# Altium integrated library Linear Technology Comparators.IntLib: 630 symbols (part 9 of 24)
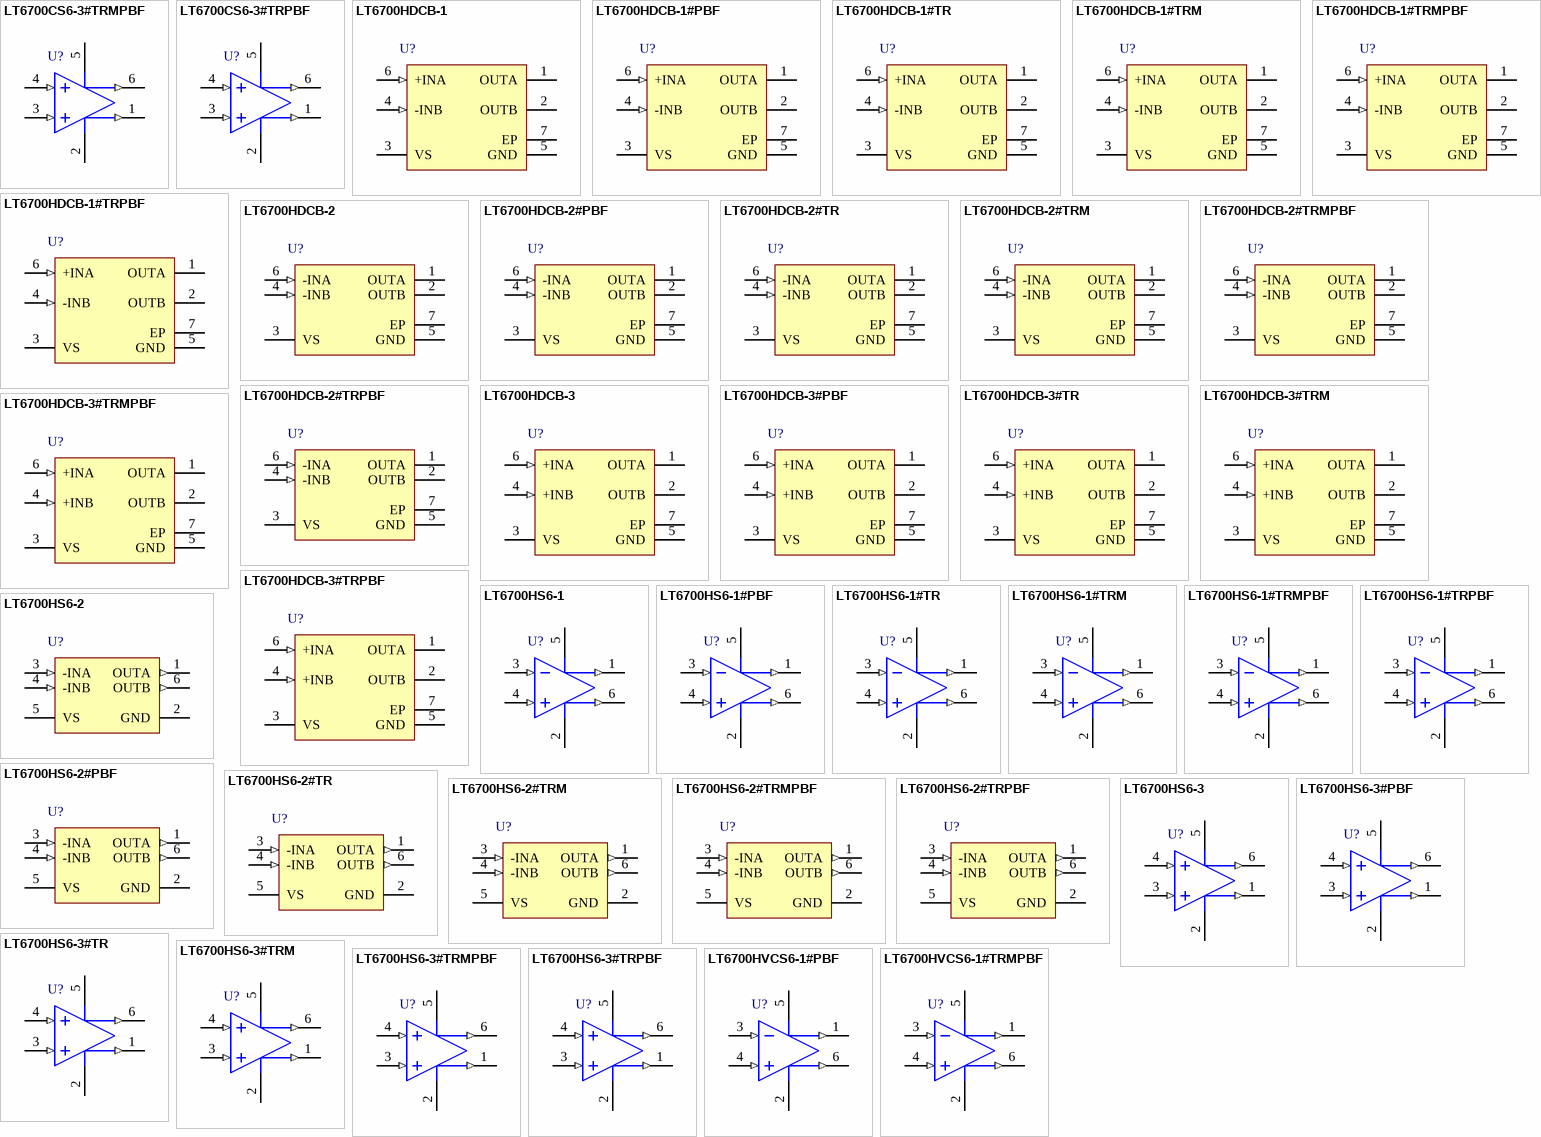
[diagram p32: symbols LT6700CS6-3#TRMPBF to LT6700HVCS6-1#TRMPBF]

## LT6700HDCB-1#TR
designator U?
Micropower, Low Voltage, Comparator with 400 mV Reference, 2 Channels, 1.4 to 18 V, -40 to +125 degC, 6-pin Plastic DFN (DCB6), Tape and Reel; Generic Part Number: LT6700-1; Manufacturer: Linear Technology; PartNumber: LT6700HDCB-1#TR; Channels (#): 2; Prop Delay (us): 18; Supply Current (uA) Guaranteed: 10; Supply Current (uA) Typical: 5.7; Vos (mV) Typical: 6; Vs Min (V): 1.4; DatasheetVersion: Rev G; PackageReference: DCB6; PackageDescription: 6-Pin Plastic DFN, Body 2 × 3 mm, Pitch 1.35 mm; Features: Comparator, Window Comparator, Reference, Over-the-Top Inputs; RoHS: N; Supply Voltage Range: 1.4 to 18 V; Vs Max (V): 18; Mounting Technology: Surface Mount; Code_JEDEC: M0-229; ComponentLink1Description: Manufacturer URL; ComponentLink1URL: http://www.linear.com/; ComponentLink2Description: Datasheet; ComponentLink2URL: http://cds.linear.com/docs/en/datasheet/6700123fg.pdf; ComponentLink3Description: Package Specification; ComponentLink3URL: http://cds.linear.com/docs/en/packaging/(DCB6)%20DFN%2005-08-1715%20Rev%20A.pdf
footprint LT-DCB6_V (SON, 6-Leads, Body 2x3mm, Pitch 0.5mm, Thermal Pad 1.35x1.65mm)
pins: 1 OUTA (oc) "Open-Collector Output of Comparator Section A This pin provides drive for up to 40mA of load current.off state voltage may be as high as 18V (36V for LT6700HV) above GND ,regardless of VS used.", 2 OUTB (oc) "Open-Collector Output of Comparator Section B  This pin provides drive for up to 40mA of load current .off state voltage may be as high as 18V(36V for LT6700HV)above  GND,regardless of VS used.", 3 VS (power) "Comparator Core Supply Voltage. The parts are characterized for operation with 1.4V =< VS =< 18V with respect to GND.", 4 -INB (in) "External Input for Comparator Section B. The voltage on this pin can range from -0.3V to 18V (36V for LT6700HV) with respect to GND regardless of VS used. The input is noninverting for the LT6700-3/LT6700HV-3, and inverting (See Datasheet)", 5 GND (power) "Ground. This pin is also the low side return of the internal 400mV reference", 6 +INA (in) "External Input for Comparator Section A. The voltage on this pin can range from -0.3V to 18V (36V for LT6700HV) with respect to GND regardless of VS used. The input is (See Datasheet)", 7 EP (power)

## LT6700HDCB-1#TRM
designator U?
Micropower, Low Voltage, Comparator with 400 mV Reference, 2 Channels, 1.4 to 18 V, -40 to +125 degC, 6-pin Plastic DFN (DCB6), Mini Tape and Reel; Generic Part Number: LT6700-1; Manufacturer: Linear Technology; PartNumber: LT6700HDCB-1#TRM; Channels (#): 2; Prop Delay (us): 18; Supply Current (uA) Guaranteed: 10; Supply Current (uA) Typical: 5.7; Vos (mV) Typical: 6; Vs Min (V): 1.4; DatasheetVersion: Rev G; PackageReference: DCB6; PackageDescription: 6-Pin Plastic DFN, Body 2 × 3 mm, Pitch 1.35 mm; Features: Comparator, Window Comparator, Reference, Over-the-Top Inputs; RoHS: N; Supply Voltage Range: 1.4 to 18 V; Vs Max (V): 18; Mounting Technology: Surface Mount; Code_JEDEC: M0-229; ComponentLink1Description: Manufacturer URL; ComponentLink1URL: http://www.linear.com/; ComponentLink2Description: Datasheet; ComponentLink2URL: http://cds.linear.com/docs/en/datasheet/6700123fg.pdf; ComponentLink3Description: Package Specification; ComponentLink3URL: http://cds.linear.com/docs/en/packaging/(DCB6)%20DFN%2005-08-1715%20Rev%20A.pdf
footprint LT-DCB6_V (SON, 6-Leads, Body 2x3mm, Pitch 0.5mm, Thermal Pad 1.35x1.65mm)
pins: 1 OUTA (oc) "Open-Collector Output of Comparator Section A This pin provides drive for up to 40mA of load current.off state voltage may be as high as 18V (36V for LT6700HV) above GND ,regardless of VS used.", 2 OUTB (oc) "Open-Collector Output of Comparator Section B  This pin provides drive for up to 40mA of load current .off state voltage may be as high as 18V(36V for LT6700HV)above  GND,regardless of VS used.", 3 VS (power) "Comparator Core Supply Voltage. The parts are characterized for operation with 1.4V =< VS =< 18V with respect to GND.", 4 -INB (in) "External Input for Comparator Section B. The voltage on this pin can range from -0.3V to 18V (36V for LT6700HV) with respect to GND regardless of VS used. The input is noninverting for the LT6700-3/LT6700HV-3, and inverting (See Datasheet)", 5 GND (power) "Ground. This pin is also the low side return of the internal 400mV reference", 6 +INA (in) "External Input for Comparator Section A. The voltage on this pin can range from -0.3V to 18V (36V for LT6700HV) with respect to GND regardless of VS used. The input is (See Datasheet)", 7 EP (power)

## LT6700HDCB-1#TRMPBF
designator U?
Micropower, Low Voltage, Comparator with 400 mV Reference, 2 Channels, 1.4 to 18 V, -40 to +125 degC, 6-pin Plastic DFN (DCB6), Mini Tape and Reel; Generic Part Number: LT6700-1; Manufacturer: Linear Technology; PartNumber: LT6700HDCB-1#TRMPBF; Channels (#): 2; Prop Delay (us): 18; Supply Current (uA) Guaranteed: 10; Supply Current (uA) Typical: 5.7; Vos (mV) Typical: 6; Vs Min (V): 1.4; DatasheetVersion: Rev G; PackageReference: DCB6; PackageDescription: 6-Pin Plastic DFN, Body 2 × 3 mm, Pitch 1.35 mm; Supplier 1: Digi-Key; Supplier Part Number 1: LT6700HDCB-1#TRMPBF-ND; Features: Comparator, Window Comparator, Reference, Over-the-Top Inputs; RoHS: Y; Supply Voltage Range: 1.4 to 18 V; Vs Max (V): 18; Mounting Technology: Surface Mount; Code_JEDEC: M0-229; ComponentLink1Description: Manufacturer URL; ComponentLink1URL: http://www.linear.com/; ComponentLink2Description: Datasheet; ComponentLink2URL: http://cds.linear.com/docs/en/datasheet/6700123fg.pdf; ComponentLink3Description: Package Specification; ComponentLink3URL: http://cds.linear.com/docs/en/packaging/(DCB6)%20DFN%2005-08-1715%20Rev%20A.pdf
footprint LT-DCB6_V (SON, 6-Leads, Body 2x3mm, Pitch 0.5mm, Thermal Pad 1.35x1.65mm)
pins: 1 OUTA (oc) "Open-Collector Output of Comparator Section A This pin provides drive for up to 40mA of load current.off state voltage may be as high as 18V (36V for LT6700HV) above GND ,regardless of VS used.", 2 OUTB (oc) "Open-Collector Output of Comparator Section B  This pin provides drive for up to 40mA of load current .off state voltage may be as high as 18V(36V for LT6700HV)above  GND,regardless of VS used.", 3 VS (power) "Comparator Core Supply Voltage. The parts are characterized for operation with 1.4V =< VS =< 18V with respect to GND.", 4 -INB (in) "External Input for Comparator Section B. The voltage on this pin can range from -0.3V to 18V (36V for LT6700HV) with respect to GND regardless of VS used. The input is noninverting for the LT6700-3/LT6700HV-3, and inverting (See Datasheet)", 5 GND (power) "Ground. This pin is also the low side return of the internal 400mV reference", 6 +INA (in) "External Input for Comparator Section A. The voltage on this pin can range from -0.3V to 18V (36V for LT6700HV) with respect to GND regardless of VS used. The input is (See Datasheet)", 7 EP (power)

## LT6700HDCB-1#TRPBF
designator U?
Micropower, Low Voltage, Comparator with 400 mV Reference, 2 Channels, 1.4 to 18 V, -40 to +125 degC, 6-pin Plastic DFN (DCB6), Tape and Reel; Generic Part Number: LT6700-1; Manufacturer: Linear Technology; PartNumber: LT6700HDCB-1#TRPBF; Channels (#): 2; Prop Delay (us): 18; Supply Current (uA) Guaranteed: 10; Supply Current (uA) Typical: 5.7; Vos (mV) Typical: 6; Vs Min (V): 1.4; DatasheetVersion: Rev G; PackageReference: DCB6; PackageDescription: 6-Pin Plastic DFN, Body 2 × 3 mm, Pitch 1.35 mm; Supplier 1: Digi-Key; Supplier Part Number 1: LT6700HDCB-1#TRPBF-ND; Features: Comparator, Window Comparator, Reference, Over-the-Top Inputs; RoHS: Y; Supply Voltage Range: 1.4 to 18 V; Vs Max (V): 18; Mounting Technology: Surface Mount; Code_JEDEC: M0-229; ComponentLink1Description: Manufacturer URL; ComponentLink1URL: http://www.linear.com/; ComponentLink2Description: Datasheet; ComponentLink2URL: http://cds.linear.com/docs/en/datasheet/6700123fg.pdf; ComponentLink3Description: Package Specification; ComponentLink3URL: http://cds.linear.com/docs/en/packaging/(DCB6)%20DFN%2005-08-1715%20Rev%20A.pdf
footprint LT-DCB6_V (SON, 6-Leads, Body 2x3mm, Pitch 0.5mm, Thermal Pad 1.35x1.65mm)
pins: 1 OUTA (oc) "Open-Collector Output of Comparator Section A This pin provides drive for up to 40mA of load current.off state voltage may be as high as 18V (36V for LT6700HV) above GND ,regardless of VS used.", 2 OUTB (oc) "Open-Collector Output of Comparator Section B  This pin provides drive for up to 40mA of load current .off state voltage may be as high as 18V(36V for LT6700HV)above  GND,regardless of VS used.", 3 VS (power) "Comparator Core Supply Voltage. The parts are characterized for operation with 1.4V =< VS =< 18V with respect to GND.", 4 -INB (in) "External Input for Comparator Section B. The voltage on this pin can range from -0.3V to 18V (36V for LT6700HV) with respect to GND regardless of VS used. The input is noninverting for the LT6700-3/LT6700HV-3, and inverting (See Datasheet)", 5 GND (power) "Ground. This pin is also the low side return of the internal 400mV reference", 6 +INA (in) "External Input for Comparator Section A. The voltage on this pin can range from -0.3V to 18V (36V for LT6700HV) with respect to GND regardless of VS used. The input is (See Datasheet)", 7 EP (power)

## LT6700HDCB-2
designator U?
Micropower, Low Voltage, Comparator with 400 mV Reference, 2 Channels, 1.4 to 18 V, -40 to +125 degC, 6-pin Plastic DFN (DCB6); Generic Part Number: LT6700-2; Manufacturer: Linear Technology; PartNumber: LT6700HDCB-2; Channels (#): 2; Prop Delay (us): 18; Supply Current (uA) Guaranteed: 10; Supply Current (uA) Typical: 5.7; Vos (mV) Typical: 6; Vs Min (V): 1.4; DatasheetVersion: Rev G; PackageReference: DCB6; PackageDescription: 6-Pin Plastic DFN, Body 2 × 3 mm, Pitch 1.35 mm; Features: Comparator, Reference, Over-the-Top Inputs; RoHS: N; Supply Voltage Range: 1.4 to 18 V; Vs Max (V): 18; Mounting Technology: Surface Mount; Code_JEDEC: M0-229; ComponentLink1Description: Manufacturer URL; ComponentLink1URL: http://www.linear.com/; ComponentLink2Description: Datasheet; ComponentLink2URL: http://cds.linear.com/docs/en/datasheet/6700123fg.pdf; ComponentLink3Description: Package Specification; ComponentLink3URL: http://cds.linear.com/docs/en/packaging/(DCB6)%20DFN%2005-08-1715%20Rev%20A.pdf
footprint LT-DCB6_V (SON, 6-Leads, Body 2x3mm, Pitch 0.5mm, Thermal Pad 1.35x1.65mm)
pins: 1 OUTA (oc) "Open-Collector Output of Comparator Section A.This pin provides drive for up to 40mA of load current. Offstate voltage may be as high as 36V for LT6700HV above GND, regardless of VS used.", 2 OUTB (oc) "Open-Collector Output of Comparator Section B.This pin provides drive for up to 40mA of load current. Offstate voltage may be as high as 36V for LT6700HV above GND, regardless of VS used.", 3 VS (power) "Comparator Core Supply Voltage. The parts are characterized for operation with 1.4V =< VS =< 18V with respect to GND.", 4 -INB (in) "External Input for Comparator Section B. The voltage on this pin can range from -0.3V to 36V for LT6700HV withrespecttoGNDregardlessofVSused.TheinputisnoninvertingfortheLT6700-1/LT6700HV-1andLT6700-3/LT6700HV-3, and (See Datasheet)", 5 GND (power) "Ground. This pin is also the low side return of theinternal 400mV reference.", 6 -INA (in) "External Input for Comparator Section A. The voltage on this pin can range from -0.3V to 36V for LT6700HV withrespecttoGNDregardlessofVSused.TheinputisnoninvertingfortheLT6700-1/LT6700HV-1andLT6700-3/LT6700HV-3, and (See Datasheet)", 7 EP (power) "Soldered exposed pad (pin 7)  internally connected to gnd"

## LT6700HDCB-2#PBF
designator U?
Micropower, Low Voltage, Comparator with 400 mV Reference, 2 Channels, 1.4 to 18 V, -40 to +125 degC, 6-pin Plastic DFN (DCB6); Generic Part Number: LT6700-2; Manufacturer: Linear Technology; PartNumber: LT6700HDCB-2#PBF; Channels (#): 2; Prop Delay (us): 18; Supply Current (uA) Guaranteed: 10; Supply Current (uA) Typical: 5.7; Vos (mV) Typical: 6; Vs Min (V): 1.4; DatasheetVersion: Rev G; PackageReference: DCB6; PackageDescription: 6-Pin Plastic DFN, Body 2 × 3 mm, Pitch 1.35 mm; Features: Comparator, Reference, Over-the-Top Inputs; RoHS: Y; Supply Voltage Range: 1.4 to 18 V; Vs Max (V): 18; Mounting Technology: Surface Mount; Code_JEDEC: M0-229; ComponentLink1Description: Manufacturer URL; ComponentLink1URL: http://www.linear.com/; ComponentLink2Description: Datasheet; ComponentLink2URL: http://cds.linear.com/docs/en/datasheet/6700123fg.pdf; ComponentLink3Description: Package Specification; ComponentLink3URL: http://cds.linear.com/docs/en/packaging/(DCB6)%20DFN%2005-08-1715%20Rev%20A.pdf
footprint LT-DCB6_V (SON, 6-Leads, Body 2x3mm, Pitch 0.5mm, Thermal Pad 1.35x1.65mm)
pins: 1 OUTA (oc) "Open-Collector Output of Comparator Section A.This pin provides drive for up to 40mA of load current. Offstate voltage may be as high as 36V for LT6700HV above GND, regardless of VS used.", 2 OUTB (oc) "Open-Collector Output of Comparator Section B.This pin provides drive for up to 40mA of load current. Offstate voltage may be as high as 36V for LT6700HV above GND, regardless of VS used.", 3 VS (power) "Comparator Core Supply Voltage. The parts are characterized for operation with 1.4V =< VS =< 18V with respect to GND.", 4 -INB (in) "External Input for Comparator Section B. The voltage on this pin can range from -0.3V to 36V for LT6700HV withrespecttoGNDregardlessofVSused.TheinputisnoninvertingfortheLT6700-1/LT6700HV-1andLT6700-3/LT6700HV-3, and (See Datasheet)", 5 GND (power) "Ground. This pin is also the low side return of theinternal 400mV reference.", 6 -INA (in) "External Input for Comparator Section A. The voltage on this pin can range from -0.3V to 36V for LT6700HV withrespecttoGNDregardlessofVSused.TheinputisnoninvertingfortheLT6700-1/LT6700HV-1andLT6700-3/LT6700HV-3, and (See Datasheet)", 7 EP (power) "Soldered exposed pad (pin 7)  internally connected to gnd"

## LT6700HDCB-2#TR
designator U?
Micropower, Low Voltage, Comparator with 400 mV Reference, 2 Channels, 1.4 to 18 V, -40 to +125 degC, 6-pin Plastic DFN (DCB6), Tape and Reel; Generic Part Number: LT6700-2; Manufacturer: Linear Technology; PartNumber: LT6700HDCB-2#TR; Channels (#): 2; Prop Delay (us): 18; Supply Current (uA) Guaranteed: 10; Supply Current (uA) Typical: 5.7; Vos (mV) Typical: 6; Vs Min (V): 1.4; DatasheetVersion: Rev G; PackageReference: DCB6; PackageDescription: 6-Pin Plastic DFN, Body 2 × 3 mm, Pitch 1.35 mm; Features: Comparator, Reference, Over-the-Top Inputs; RoHS: N; Supply Voltage Range: 1.4 to 18 V; Vs Max (V): 18; Mounting Technology: Surface Mount; Code_JEDEC: M0-229; ComponentLink1Description: Manufacturer URL; ComponentLink1URL: http://www.linear.com/; ComponentLink2Description: Datasheet; ComponentLink2URL: http://cds.linear.com/docs/en/datasheet/6700123fg.pdf; ComponentLink3Description: Package Specification; ComponentLink3URL: http://cds.linear.com/docs/en/packaging/(DCB6)%20DFN%2005-08-1715%20Rev%20A.pdf
footprint LT-DCB6_V (SON, 6-Leads, Body 2x3mm, Pitch 0.5mm, Thermal Pad 1.35x1.65mm)
pins: 1 OUTA (oc) "Open-Collector Output of Comparator Section A.This pin provides drive for up to 40mA of load current. Offstate voltage may be as high as 36V for LT6700HV above GND, regardless of VS used.", 2 OUTB (oc) "Open-Collector Output of Comparator Section B.This pin provides drive for up to 40mA of load current. Offstate voltage may be as high as 36V for LT6700HV above GND, regardless of VS used.", 3 VS (power) "Comparator Core Supply Voltage. The parts are characterized for operation with 1.4V =< VS =< 18V with respect to GND.", 4 -INB (in) "External Input for Comparator Section B. The voltage on this pin can range from -0.3V to 36V for LT6700HV withrespecttoGNDregardlessofVSused.TheinputisnoninvertingfortheLT6700-1/LT6700HV-1andLT6700-3/LT6700HV-3, and (See Datasheet)", 5 GND (power) "Ground. This pin is also the low side return of theinternal 400mV reference.", 6 -INA (in) "External Input for Comparator Section A. The voltage on this pin can range from -0.3V to 36V for LT6700HV withrespecttoGNDregardlessofVSused.TheinputisnoninvertingfortheLT6700-1/LT6700HV-1andLT6700-3/LT6700HV-3, and (See Datasheet)", 7 EP (power) "Soldered exposed pad (pin 7)  internally connected to gnd"

## LT6700HDCB-2#TRM
designator U?
Micropower, Low Voltage, Comparator with 400 mV Reference, 2 Channels, 1.4 to 18 V, -40 to +125 degC, 6-pin Plastic DFN (DCB6), Mini Tape and Reel; Generic Part Number: LT6700-2; Manufacturer: Linear Technology; PartNumber: LT6700HDCB-2#TRM; Channels (#): 2; Prop Delay (us): 18; Supply Current (uA) Guaranteed: 10; Supply Current (uA) Typical: 5.7; Vos (mV) Typical: 6; Vs Min (V): 1.4; DatasheetVersion: Rev G; PackageReference: DCB6; PackageDescription: 6-Pin Plastic DFN, Body 2 × 3 mm, Pitch 1.35 mm; Features: Comparator, Reference, Over-the-Top Inputs; RoHS: N; Supply Voltage Range: 1.4 to 18 V; Vs Max (V): 18; Mounting Technology: Surface Mount; Code_JEDEC: M0-229; ComponentLink1Description: Manufacturer URL; ComponentLink1URL: http://www.linear.com/; ComponentLink2Description: Datasheet; ComponentLink2URL: http://cds.linear.com/docs/en/datasheet/6700123fg.pdf; ComponentLink3Description: Package Specification; ComponentLink3URL: http://cds.linear.com/docs/en/packaging/(DCB6)%20DFN%2005-08-1715%20Rev%20A.pdf
footprint LT-DCB6_V (SON, 6-Leads, Body 2x3mm, Pitch 0.5mm, Thermal Pad 1.35x1.65mm)
pins: 1 OUTA (oc) "Open-Collector Output of Comparator Section A.This pin provides drive for up to 40mA of load current. Offstate voltage may be as high as 36V for LT6700HV above GND, regardless of VS used.", 2 OUTB (oc) "Open-Collector Output of Comparator Section B.This pin provides drive for up to 40mA of load current. Offstate voltage may be as high as 36V for LT6700HV above GND, regardless of VS used.", 3 VS (power) "Comparator Core Supply Voltage. The parts are characterized for operation with 1.4V =< VS =< 18V with respect to GND.", 4 -INB (in) "External Input for Comparator Section B. The voltage on this pin can range from -0.3V to 36V for LT6700HV withrespecttoGNDregardlessofVSused.TheinputisnoninvertingfortheLT6700-1/LT6700HV-1andLT6700-3/LT6700HV-3, and (See Datasheet)", 5 GND (power) "Ground. This pin is also the low side return of theinternal 400mV reference.", 6 -INA (in) "External Input for Comparator Section A. The voltage on this pin can range from -0.3V to 36V for LT6700HV withrespecttoGNDregardlessofVSused.TheinputisnoninvertingfortheLT6700-1/LT6700HV-1andLT6700-3/LT6700HV-3, and (See Datasheet)", 7 EP (power) "Soldered exposed pad (pin 7)  internally connected to gnd"

## LT6700HDCB-2#TRMPBF
designator U?
Micropower, Low Voltage, Comparator with 400 mV Reference, 2 Channels, 1.4 to 18 V, -40 to +125 degC, 6-pin Plastic DFN (DCB6), Mini Tape and Reel; Generic Part Number: LT6700-2; Manufacturer: Linear Technology; PartNumber: LT6700HDCB-2#TRMPBF; Channels (#): 2; Prop Delay (us): 18; Supply Current (uA) Guaranteed: 10; Supply Current (uA) Typical: 5.7; Vos (mV) Typical: 6; Vs Min (V): 1.4; DatasheetVersion: Rev G; PackageReference: DCB6; PackageDescription: 6-Pin Plastic DFN, Body 2 × 3 mm, Pitch 1.35 mm; Supplier 1: Digi-Key; Supplier Part Number 1: LT6700HDCB-2#TRMPBF-ND; Features: Comparator, Reference, Over-the-Top Inputs; RoHS: Y; Supply Voltage Range: 1.4 to 18 V; Vs Max (V): 18; Mounting Technology: Surface Mount; Code_JEDEC: M0-229; ComponentLink1Description: Manufacturer URL; ComponentLink1URL: http://www.linear.com/; ComponentLink2Description: Datasheet; ComponentLink2URL: http://cds.linear.com/docs/en/datasheet/6700123fg.pdf; ComponentLink3Description: Package Specification; ComponentLink3URL: http://cds.linear.com/docs/en/packaging/(DCB6)%20DFN%2005-08-1715%20Rev%20A.pdf
footprint LT-DCB6_V (SON, 6-Leads, Body 2x3mm, Pitch 0.5mm, Thermal Pad 1.35x1.65mm)
pins: 1 OUTA (oc) "Open-Collector Output of Comparator Section A.This pin provides drive for up to 40mA of load current. Offstate voltage may be as high as 36V for LT6700HV above GND, regardless of VS used.", 2 OUTB (oc) "Open-Collector Output of Comparator Section B.This pin provides drive for up to 40mA of load current. Offstate voltage may be as high as 36V for LT6700HV above GND, regardless of VS used.", 3 VS (power) "Comparator Core Supply Voltage. The parts are characterized for operation with 1.4V =< VS =< 18V with respect to GND.", 4 -INB (in) "External Input for Comparator Section B. The voltage on this pin can range from -0.3V to 36V for LT6700HV withrespecttoGNDregardlessofVSused.TheinputisnoninvertingfortheLT6700-1/LT6700HV-1andLT6700-3/LT6700HV-3, and (See Datasheet)", 5 GND (power) "Ground. This pin is also the low side return of theinternal 400mV reference.", 6 -INA (in) "External Input for Comparator Section A. The voltage on this pin can range from -0.3V to 36V for LT6700HV withrespecttoGNDregardlessofVSused.TheinputisnoninvertingfortheLT6700-1/LT6700HV-1andLT6700-3/LT6700HV-3, and (See Datasheet)", 7 EP (power) "Soldered exposed pad (pin 7)  internally connected to gnd"

## LT6700HDCB-2#TRPBF
designator U?
Micropower, Low Voltage, Comparator with 400 mV Reference, 2 Channels, 1.4 to 18 V, -40 to +125 degC, 6-pin Plastic DFN (DCB6), Tape and Reel; Generic Part Number: LT6700-2; Manufacturer: Linear Technology; PartNumber: LT6700HDCB-2#TRPBF; Channels (#): 2; Prop Delay (us): 18; Supply Current (uA) Guaranteed: 10; Supply Current (uA) Typical: 5.7; Vos (mV) Typical: 6; Vs Min (V): 1.4; DatasheetVersion: Rev G; PackageReference: DCB6; PackageDescription: 6-Pin Plastic DFN, Body 2 × 3 mm, Pitch 1.35 mm; Supplier 1: Digi-Key; Supplier Part Number 1: LT6700HDCB-2#TRPBF-ND; Features: Comparator, Reference, Over-the-Top Inputs; RoHS: Y; Supply Voltage Range: 1.4 to 18 V; Vs Max (V): 18; Mounting Technology: Surface Mount; Code_JEDEC: M0-229; ComponentLink1Description: Manufacturer URL; ComponentLink1URL: http://www.linear.com/; ComponentLink2Description: Datasheet; ComponentLink2URL: http://cds.linear.com/docs/en/datasheet/6700123fg.pdf; ComponentLink3Description: Package Specification; ComponentLink3URL: http://cds.linear.com/docs/en/packaging/(DCB6)%20DFN%2005-08-1715%20Rev%20A.pdf
footprint LT-DCB6_V (SON, 6-Leads, Body 2x3mm, Pitch 0.5mm, Thermal Pad 1.35x1.65mm)
pins: 1 OUTA (oc) "Open-Collector Output of Comparator Section A.This pin provides drive for up to 40mA of load current. Offstate voltage may be as high as 36V for LT6700HV above GND, regardless of VS used.", 2 OUTB (oc) "Open-Collector Output of Comparator Section B.This pin provides drive for up to 40mA of load current. Offstate voltage may be as high as 36V for LT6700HV above GND, regardless of VS used.", 3 VS (power) "Comparator Core Supply Voltage. The parts are characterized for operation with 1.4V =< VS =< 18V with respect to GND.", 4 -INB (in) "External Input for Comparator Section B. The voltage on this pin can range from -0.3V to 36V for LT6700HV withrespecttoGNDregardlessofVSused.TheinputisnoninvertingfortheLT6700-1/LT6700HV-1andLT6700-3/LT6700HV-3, and (See Datasheet)", 5 GND (power) "Ground. This pin is also the low side return of theinternal 400mV reference.", 6 -INA (in) "External Input for Comparator Section A. The voltage on this pin can range from -0.3V to 36V for LT6700HV withrespecttoGNDregardlessofVSused.TheinputisnoninvertingfortheLT6700-1/LT6700HV-1andLT6700-3/LT6700HV-3, and (See Datasheet)", 7 EP (power) "Soldered exposed pad (pin 7)  internally connected to gnd"

## LT6700HDCB-3
designator U?
Micropower, Low Voltage, Comparator with 400 mV Reference, 2 Channels, 1.4 to 18 V, -40 to +125 degC, 6-pin Plastic DFN (DCB6); Generic Part Number: LT6700-3; Manufacturer: Linear Technology; PartNumber: LT6700HDCB-3; Channels (#): 2; Prop Delay (us): 18; Supply Current (uA) Guaranteed: 10; Supply Current (uA) Typical: 5.7; Vos (mV) Typical: 6; Vs Min (V): 1.4; DatasheetVersion: Rev G; PackageReference: DCB6; PackageDescription: 6-Pin Plastic DFN, Body 2 × 3 mm, Pitch 1.35 mm; Features: Comparator, Reference, Over-the-Top Inputs; RoHS: N; Supply Voltage Range: 1.4 to 18 V; Vs Max (V): 18; Mounting Technology: Surface Mount; Code_JEDEC: M0-229; ComponentLink1Description: Manufacturer URL; ComponentLink1URL: http://www.linear.com/; ComponentLink2Description: Datasheet; ComponentLink2URL: http://cds.linear.com/docs/en/datasheet/6700123fg.pdf; ComponentLink3Description: Package Specification; ComponentLink3URL: http://cds.linear.com/docs/en/packaging/(DCB6)%20DFN%2005-08-1715%20Rev%20A.pdf
footprint LT-DCB6_V (SON, 6-Leads, Body 2x3mm, Pitch 0.5mm, Thermal Pad 1.35x1.65mm)
pins: 1 OUTA (oc) "Open-Collector Output of Comparator Section A. This pin provides drive for up to 40mA of load current. Offstate voltage may be as high as 18V above GND, regardless of VS used.", 2 OUTB (oc) "Open-Collector Output of Comparator Section B. This pin provides drive for up to 40mA of load current. Offstate voltage may be as high as 18V above GND, regardless of VS used.", 3 VS (power) "Comparator Core Supply Voltage. The parts are characterized for operation with 1.4V =< VS =< 18V with respect to GND.", 4 +INB (in) "External Input for Comparator Section B. The voltage on this pin can range from -0.3V to 18V with respect to GND regardless of VS used. The input is noninverting. The other section B comparator input is internally connected (See Datasheet)", 5 GND (power) "Ground. This pin is also the low side return of the internal 400mV reference.", 6 +INA (in) "External Input for Comparator Section A. The voltage on this pin can range from -0.3V to 18V with respect to GND regardless of VS used. The input is noninverting. The other section B comparator input is internally connected (See Datasheet)", 7 EP (power)

## LT6700HDCB-3#PBF
designator U?
Micropower, Low Voltage, Comparator with 400 mV Reference, 2 Channels, 1.4 to 18 V, -40 to +125 degC, 6-pin Plastic DFN (DCB6); Generic Part Number: LT6700-3; Manufacturer: Linear Technology; PartNumber: LT6700HDCB-3#PBF; Channels (#): 2; Prop Delay (us): 18; Supply Current (uA) Guaranteed: 10; Supply Current (uA) Typical: 5.7; Vos (mV) Typical: 6; Vs Min (V): 1.4; DatasheetVersion: Rev G; PackageReference: DCB6; PackageDescription: 6-Pin Plastic DFN, Body 2 × 3 mm, Pitch 1.35 mm; Features: Comparator, Reference, Over-the-Top Inputs; RoHS: Y; Supply Voltage Range: 1.4 to 18 V; Vs Max (V): 18; Mounting Technology: Surface Mount; Code_JEDEC: M0-229; ComponentLink1Description: Manufacturer URL; ComponentLink1URL: http://www.linear.com/; ComponentLink2Description: Datasheet; ComponentLink2URL: http://cds.linear.com/docs/en/datasheet/6700123fg.pdf; ComponentLink3Description: Package Specification; ComponentLink3URL: http://cds.linear.com/docs/en/packaging/(DCB6)%20DFN%2005-08-1715%20Rev%20A.pdf
footprint LT-DCB6_V (SON, 6-Leads, Body 2x3mm, Pitch 0.5mm, Thermal Pad 1.35x1.65mm)
pins: 1 OUTA (oc) "Open-Collector Output of Comparator Section A. This pin provides drive for up to 40mA of load current. Offstate voltage may be as high as 18V above GND, regardless of VS used.", 2 OUTB (oc) "Open-Collector Output of Comparator Section B. This pin provides drive for up to 40mA of load current. Offstate voltage may be as high as 18V above GND, regardless of VS used.", 3 VS (power) "Comparator Core Supply Voltage. The parts are characterized for operation with 1.4V =< VS =< 18V with respect to GND.", 4 +INB (in) "External Input for Comparator Section B. The voltage on this pin can range from -0.3V to 18V with respect to GND regardless of VS used. The input is noninverting. The other section B comparator input is internally connected (See Datasheet)", 5 GND (power) "Ground. This pin is also the low side return of the internal 400mV reference.", 6 +INA (in) "External Input for Comparator Section A. The voltage on this pin can range from -0.3V to 18V with respect to GND regardless of VS used. The input is noninverting. The other section B comparator input is internally connected (See Datasheet)", 7 EP (power)

## LT6700HDCB-3#TR
designator U?
Micropower, Low Voltage, Comparator with 400 mV Reference, 2 Channels, 1.4 to 18 V, -40 to +125 degC, 6-pin Plastic DFN (DCB6), Tape and Reel; Generic Part Number: LT6700-3; Manufacturer: Linear Technology; PartNumber: LT6700HDCB-3#TR; Channels (#): 2; Prop Delay (us): 18; Supply Current (uA) Guaranteed: 10; Supply Current (uA) Typical: 5.7; Vos (mV) Typical: 6; Vs Min (V): 1.4; DatasheetVersion: Rev G; PackageReference: DCB6; PackageDescription: 6-Pin Plastic DFN, Body 2 × 3 mm, Pitch 1.35 mm; Features: Comparator, Reference, Over-the-Top Inputs; RoHS: N; Supply Voltage Range: 1.4 to 18 V; Vs Max (V): 18; Mounting Technology: Surface Mount; Code_JEDEC: M0-229; ComponentLink1Description: Manufacturer URL; ComponentLink1URL: http://www.linear.com/; ComponentLink2Description: Datasheet; ComponentLink2URL: http://cds.linear.com/docs/en/datasheet/6700123fg.pdf; ComponentLink3Description: Package Specification; ComponentLink3URL: http://cds.linear.com/docs/en/packaging/(DCB6)%20DFN%2005-08-1715%20Rev%20A.pdf
footprint LT-DCB6_V (SON, 6-Leads, Body 2x3mm, Pitch 0.5mm, Thermal Pad 1.35x1.65mm)
pins: 1 OUTA (oc) "Open-Collector Output of Comparator Section A. This pin provides drive for up to 40mA of load current. Offstate voltage may be as high as 18V above GND, regardless of VS used.", 2 OUTB (oc) "Open-Collector Output of Comparator Section B. This pin provides drive for up to 40mA of load current. Offstate voltage may be as high as 18V above GND, regardless of VS used.", 3 VS (power) "Comparator Core Supply Voltage. The parts are characterized for operation with 1.4V =< VS =< 18V with respect to GND.", 4 +INB (in) "External Input for Comparator Section B. The voltage on this pin can range from -0.3V to 18V with respect to GND regardless of VS used. The input is noninverting. The other section B comparator input is internally connected (See Datasheet)", 5 GND (power) "Ground. This pin is also the low side return of the internal 400mV reference.", 6 +INA (in) "External Input for Comparator Section A. The voltage on this pin can range from -0.3V to 18V with respect to GND regardless of VS used. The input is noninverting. The other section B comparator input is internally connected (See Datasheet)", 7 EP (power)

## LT6700HDCB-3#TRM
designator U?
Micropower, Low Voltage, Comparator with 400 mV Reference, 2 Channels, 1.4 to 18 V, -40 to +125 degC, 6-pin Plastic DFN (DCB6), Mini Tape and Reel; Generic Part Number: LT6700-3; Manufacturer: Linear Technology; PartNumber: LT6700HDCB-3#TRM; Channels (#): 2; Prop Delay (us): 18; Supply Current (uA) Guaranteed: 10; Supply Current (uA) Typical: 5.7; Vos (mV) Typical: 6; Vs Min (V): 1.4; DatasheetVersion: Rev G; PackageReference: DCB6; PackageDescription: 6-Pin Plastic DFN, Body 2 × 3 mm, Pitch 1.35 mm; Features: Comparator, Reference, Over-the-Top Inputs; RoHS: N; Supply Voltage Range: 1.4 to 18 V; Vs Max (V): 18; Mounting Technology: Surface Mount; Code_JEDEC: M0-229; ComponentLink1Description: Manufacturer URL; ComponentLink1URL: http://www.linear.com/; ComponentLink2Description: Datasheet; ComponentLink2URL: http://cds.linear.com/docs/en/datasheet/6700123fg.pdf; ComponentLink3Description: Package Specification; ComponentLink3URL: http://cds.linear.com/docs/en/packaging/(DCB6)%20DFN%2005-08-1715%20Rev%20A.pdf
footprint LT-DCB6_V (SON, 6-Leads, Body 2x3mm, Pitch 0.5mm, Thermal Pad 1.35x1.65mm)
pins: 1 OUTA (oc) "Open-Collector Output of Comparator Section A. This pin provides drive for up to 40mA of load current. Offstate voltage may be as high as 18V above GND, regardless of VS used.", 2 OUTB (oc) "Open-Collector Output of Comparator Section B. This pin provides drive for up to 40mA of load current. Offstate voltage may be as high as 18V above GND, regardless of VS used.", 3 VS (power) "Comparator Core Supply Voltage. The parts are characterized for operation with 1.4V =< VS =< 18V with respect to GND.", 4 +INB (in) "External Input for Comparator Section B. The voltage on this pin can range from -0.3V to 18V with respect to GND regardless of VS used. The input is noninverting. The other section B comparator input is internally connected (See Datasheet)", 5 GND (power) "Ground. This pin is also the low side return of the internal 400mV reference.", 6 +INA (in) "External Input for Comparator Section A. The voltage on this pin can range from -0.3V to 18V with respect to GND regardless of VS used. The input is noninverting. The other section B comparator input is internally connected (See Datasheet)", 7 EP (power)

## LT6700HDCB-3#TRMPBF
designator U?
Micropower, Low Voltage, Comparator with 400 mV Reference, 2 Channels, 1.4 to 18 V, -40 to +125 degC, 6-pin Plastic DFN (DCB6), Mini Tape and Reel; Generic Part Number: LT6700-3; Manufacturer: Linear Technology; PartNumber: LT6700HDCB-3#TRMPBF; Channels (#): 2; Prop Delay (us): 18; Supply Current (uA) Guaranteed: 10; Supply Current (uA) Typical: 5.7; Vos (mV) Typical: 6; Vs Min (V): 1.4; DatasheetVersion: Rev G; PackageReference: DCB6; PackageDescription: 6-Pin Plastic DFN, Body 2 × 3 mm, Pitch 1.35 mm; Supplier 1: Digi-Key; Supplier Part Number 1: LT6700HDCB-3#TRMPBF-ND; Supplier 2: Newark; Supplier Part Number 2: 57M9691; Features: Comparator, Reference, Over-the-Top Inputs; RoHS: Y; Supply Voltage Range: 1.4 to 18 V; Vs Max (V): 18; Mounting Technology: Surface Mount; Code_JEDEC: M0-229; ComponentLink1Description: Manufacturer URL; ComponentLink1URL: http://www.linear.com/; ComponentLink2Description: Datasheet; ComponentLink2URL: http://cds.linear.com/docs/en/datasheet/6700123fg.pdf; ComponentLink3Description: Package Specification; ComponentLink3URL: http://cds.linear.com/docs/en/packaging/(DCB6)%20DFN%2005-08-1715%20Rev%20A.pdf
footprint LT-DCB6_V (SON, 6-Leads, Body 2x3mm, Pitch 0.5mm, Thermal Pad 1.35x1.65mm)
pins: 1 OUTA (oc) "Open-Collector Output of Comparator Section A. This pin provides drive for up to 40mA of load current. Offstate voltage may be as high as 18V above GND, regardless of VS used.", 2 OUTB (oc) "Open-Collector Output of Comparator Section B. This pin provides drive for up to 40mA of load current. Offstate voltage may be as high as 18V above GND, regardless of VS used.", 3 VS (power) "Comparator Core Supply Voltage. The parts are characterized for operation with 1.4V =< VS =< 18V with respect to GND.", 4 +INB (in) "External Input for Comparator Section B. The voltage on this pin can range from -0.3V to 18V with respect to GND regardless of VS used. The input is noninverting. The other section B comparator input is internally connected (See Datasheet)", 5 GND (power) "Ground. This pin is also the low side return of the internal 400mV reference.", 6 +INA (in) "External Input for Comparator Section A. The voltage on this pin can range from -0.3V to 18V with respect to GND regardless of VS used. The input is noninverting. The other section B comparator input is internally connected (See Datasheet)", 7 EP (power)

## LT6700HDCB-3#TRPBF
designator U?
Micropower, Low Voltage, Comparator with 400 mV Reference, 2 Channels, 1.4 to 18 V, -40 to +125 degC, 6-pin Plastic DFN (DCB6), Tape and Reel; Generic Part Number: LT6700-3; Manufacturer: Linear Technology; PartNumber: LT6700HDCB-3#TRPBF; Channels (#): 2; Prop Delay (us): 18; Supply Current (uA) Guaranteed: 10; Supply Current (uA) Typical: 5.7; Vos (mV) Typical: 6; Vs Min (V): 1.4; DatasheetVersion: Rev G; PackageReference: DCB6; PackageDescription: 6-Pin Plastic DFN, Body 2 × 3 mm, Pitch 1.35 mm; Supplier 1: Digi-Key; Supplier Part Number 1: LT6700HDCB-3#TRPBF-ND; Features: Comparator, Reference, Over-the-Top Inputs; RoHS: Y; Supply Voltage Range: 1.4 to 18 V; Vs Max (V): 18; Mounting Technology: Surface Mount; Code_JEDEC: M0-229; ComponentLink1Description: Manufacturer URL; ComponentLink1URL: http://www.linear.com/; ComponentLink2Description: Datasheet; ComponentLink2URL: http://cds.linear.com/docs/en/datasheet/6700123fg.pdf; ComponentLink3Description: Package Specification; ComponentLink3URL: http://cds.linear.com/docs/en/packaging/(DCB6)%20DFN%2005-08-1715%20Rev%20A.pdf
footprint LT-DCB6_V (SON, 6-Leads, Body 2x3mm, Pitch 0.5mm, Thermal Pad 1.35x1.65mm)
pins: 1 OUTA (oc) "Open-Collector Output of Comparator Section A. This pin provides drive for up to 40mA of load current. Offstate voltage may be as high as 18V above GND, regardless of VS used.", 2 OUTB (oc) "Open-Collector Output of Comparator Section B. This pin provides drive for up to 40mA of load current. Offstate voltage may be as high as 18V above GND, regardless of VS used.", 3 VS (power) "Comparator Core Supply Voltage. The parts are characterized for operation with 1.4V =< VS =< 18V with respect to GND.", 4 +INB (in) "External Input for Comparator Section B. The voltage on this pin can range from -0.3V to 18V with respect to GND regardless of VS used. The input is noninverting. The other section B comparator input is internally connected (See Datasheet)", 5 GND (power) "Ground. This pin is also the low side return of the internal 400mV reference.", 6 +INA (in) "External Input for Comparator Section A. The voltage on this pin can range from -0.3V to 18V with respect to GND regardless of VS used. The input is noninverting. The other section B comparator input is internally connected (See Datasheet)", 7 EP (power)

## LT6700HS6-1
designator U?
Micropower, Low Voltage, Comparator with 400 mV Reference, 2 Channels, 1.4 to 18 V, -40 to +125 degC, 6-pin Plastic TSOT-23 (S6); Generic Part Number: LT6700-1; Manufacturer: Linear Technology; PartNumber: LT6700HS6-1; Channels (#): 2; Prop Delay (us): 18; Supply Current (uA) Guaranteed: 10; Supply Current (uA) Typical: 5.7; Vos (mV) Typical: 6; Vs Min (V): 1.4; DatasheetVersion: Rev G; PackageReference: S6; PackageDescription: 6-Pin Plastic TSOT-23, Body 2.9 x 1.63 mm, Pitch 0.95 mm; Features: Comparator, Window Comparator, Reference, Over-the-Top Inputs; RoHS: N; Supply Voltage Range: 1.4 to 18 V; Vs Max (V): 18; Mounting Technology: Surface Mount; Code_JEDEC: MO-193; ComponentLink1Description: Manufacturer URL; ComponentLink1URL: http://www.linear.com/; ComponentLink2Description: Datasheet; ComponentLink2URL: http://cds.linear.com/docs/en/datasheet/6700123fg.pdf; ComponentLink3Description: Package Specification; ComponentLink3URL: http://cds.linear.com/docs/en/packaging/SOT_6_05-08-1636.pdf
footprint LT-S6_N (SOT23, 6-Leads, Body 2.9x1.63mm, Pitch 0.95mm, IPC Medium Density)
footprint LT-S6_L (SOT23, 6-Leads, Body 2.9x1.63mm, Pitch 0.95mm, IPC High Density)
footprint LT-S6_M (SOT23, 6-Leads, Body 2.9x1.63mm, Pitch 0.95mm, IPC Low Density)
pins: 1 OUTA (out), 2 GND (power), 3 +INA (in), 4 -INB (in), 5 VS (power), 6 OUTB (out)

## LT6700HS6-1#PBF
designator U?
Micropower, Low Voltage, Comparator with 400 mV Reference, 2 Channels, 1.4 to 18 V, -40 to +125 degC, 6-pin Plastic TSOT-23 (S6); Generic Part Number: LT6700-1; Manufacturer: Linear Technology; PartNumber: LT6700HS6-1#PBF; Channels (#): 2; Prop Delay (us): 18; Supply Current (uA) Guaranteed: 10; Supply Current (uA) Typical: 5.7; Vos (mV) Typical: 6; Vs Min (V): 1.4; DatasheetVersion: Rev G; PackageReference: S6; PackageDescription: 6-Pin Plastic TSOT-23, Body 2.9 x 1.63 mm, Pitch 0.95 mm; Supplier 1: Newark; Supplier Part Number 1: 16P3461; Features: Comparator, Window Comparator, Reference, Over-the-Top Inputs; RoHS: Y; Supply Voltage Range: 1.4 to 18 V; Vs Max (V): 18; Mounting Technology: Surface Mount; Code_JEDEC: MO-193; ComponentLink1Description: Manufacturer URL; ComponentLink1URL: http://www.linear.com/; ComponentLink2Description: Datasheet; ComponentLink2URL: http://cds.linear.com/docs/en/datasheet/6700123fg.pdf; ComponentLink3Description: Package Specification; ComponentLink3URL: http://cds.linear.com/docs/en/packaging/SOT_6_05-08-1636.pdf
footprint LT-S6_N (SOT23, 6-Leads, Body 2.9x1.63mm, Pitch 0.95mm, IPC Medium Density)
footprint LT-S6_L (SOT23, 6-Leads, Body 2.9x1.63mm, Pitch 0.95mm, IPC High Density)
footprint LT-S6_M (SOT23, 6-Leads, Body 2.9x1.63mm, Pitch 0.95mm, IPC Low Density)
pins: 1 OUTA (out), 2 GND (power), 3 +INA (in), 4 -INB (in), 5 VS (power), 6 OUTB (out)

## LT6700HS6-1#TR
designator U?
Micropower, Low Voltage, Comparator with 400 mV Reference, 2 Channels, 1.4 to 18 V, -40 to +125 degC, 6-pin Plastic TSOT-23 (S6), Tape and Reel; Generic Part Number: LT6700-1; Manufacturer: Linear Technology; PartNumber: LT6700HS6-1#TR; Channels (#): 2; Prop Delay (us): 18; Supply Current (uA) Guaranteed: 10; Supply Current (uA) Typical: 5.7; Vos (mV) Typical: 6; Vs Min (V): 1.4; DatasheetVersion: Rev G; PackageReference: S6; PackageDescription: 6-Pin Plastic TSOT-23, Body 2.9 x 1.63 mm, Pitch 0.95 mm; Supplier 1: Digi-Key; Supplier Part Number 1: LT6700HS6-1#TR-ND; Features: Comparator, Window Comparator, Reference, Over-the-Top Inputs; RoHS: N; Supply Voltage Range: 1.4 to 18 V; Vs Max (V): 18; Mounting Technology: Surface Mount; Code_JEDEC: MO-193; ComponentLink1Description: Manufacturer URL; ComponentLink1URL: http://www.linear.com/; ComponentLink2Description: Datasheet; ComponentLink2URL: http://cds.linear.com/docs/en/datasheet/6700123fg.pdf; ComponentLink3Description: Package Specification; ComponentLink3URL: http://cds.linear.com/docs/en/packaging/SOT_6_05-08-1636.pdf
footprint LT-S6_N (SOT23, 6-Leads, Body 2.9x1.63mm, Pitch 0.95mm, IPC Medium Density)
footprint LT-S6_L (SOT23, 6-Leads, Body 2.9x1.63mm, Pitch 0.95mm, IPC High Density)
footprint LT-S6_M (SOT23, 6-Leads, Body 2.9x1.63mm, Pitch 0.95mm, IPC Low Density)
pins: 1 OUTA (out), 2 GND (power), 3 +INA (in), 4 -INB (in), 5 VS (power), 6 OUTB (out)

## LT6700HS6-1#TRM
designator U?
Micropower, Low Voltage, Comparator with 400 mV Reference, 2 Channels, 1.4 to 18 V, -40 to +125 degC, 6-pin Plastic TSOT-23 (S6), Mini Tape and Reel; Generic Part Number: LT6700-1; Manufacturer: Linear Technology; PartNumber: LT6700HS6-1#TRM; Channels (#): 2; Prop Delay (us): 18; Supply Current (uA) Guaranteed: 10; Supply Current (uA) Typical: 5.7; Vos (mV) Typical: 6; Vs Min (V): 1.4; DatasheetVersion: Rev G; PackageReference: S6; PackageDescription: 6-Pin Plastic TSOT-23, Body 2.9 x 1.63 mm, Pitch 0.95 mm; Supplier 1: Digi-Key; Supplier Part Number 1: LT6700HS6-1#TRM-ND; Supplier 2: Newark; Supplier Part Number 2: 57M9694; Features: Comparator, Window Comparator, Reference, Over-the-Top Inputs; RoHS: N; Supply Voltage Range: 1.4 to 18 V; Vs Max (V): 18; Mounting Technology: Surface Mount; Code_JEDEC: MO-193; ComponentLink1Description: Manufacturer URL; ComponentLink1URL: http://www.linear.com/; ComponentLink2Description: Datasheet; ComponentLink2URL: http://cds.linear.com/docs/en/datasheet/6700123fg.pdf; ComponentLink3Description: Package Specification; ComponentLink3URL: http://cds.linear.com/docs/en/packaging/SOT_6_05-08-1636.pdf
footprint LT-S6_N (SOT23, 6-Leads, Body 2.9x1.63mm, Pitch 0.95mm, IPC Medium Density)
footprint LT-S6_L (SOT23, 6-Leads, Body 2.9x1.63mm, Pitch 0.95mm, IPC High Density)
footprint LT-S6_M (SOT23, 6-Leads, Body 2.9x1.63mm, Pitch 0.95mm, IPC Low Density)
pins: 1 OUTA (out), 2 GND (power), 3 +INA (in), 4 -INB (in), 5 VS (power), 6 OUTB (out)

## LT6700HS6-1#TRMPBF
designator U?
Micropower, Low Voltage, Comparator with 400 mV Reference, 2 Channels, 1.4 to 18 V, -40 to +125 degC, 6-pin Plastic TSOT-23 (S6), Mini Tape and Reel; Generic Part Number: LT6700-1; Manufacturer: Linear Technology; PartNumber: LT6700HS6-1#TRMPBF; Channels (#): 2; Prop Delay (us): 18; Supply Current (uA) Guaranteed: 10; Supply Current (uA) Typical: 5.7; Vos (mV) Typical: 6; Vs Min (V): 1.4; DatasheetVersion: Rev G; PackageReference: S6; PackageDescription: 6-Pin Plastic TSOT-23, Body 2.9 x 1.63 mm, Pitch 0.95 mm; Supplier 1: Digi-Key; Supplier Part Number 1: LT6700HS6-1#TRMPBFTR-ND; Supplier 2: Digi-Key; Supplier Part Number 2: LT6700HS6-1#TRMPBFCT-ND; Supplier 3: Digi-Key; Supplier Part Number 3: LT6700HS6-1#TRMPBFDKR-ND; Supplier 4: Newark; Supplier Part Number 4: 57M9695; Features: Comparator, Window Comparator, Reference, Over-the-Top Inputs; RoHS: Y; Supply Voltage Range: 1.4 to 18 V; Vs Max (V): 18; Mounting Technology: Surface Mount; Code_JEDEC: MO-193; ComponentLink1Description: Manufacturer URL; ComponentLink1URL: http://www.linear.com/; ComponentLink2Description: Datasheet; ComponentLink2URL: http://cds.linear.com/docs/en/datasheet/6700123fg.pdf; ComponentLink3Description: Package Specification; ComponentLink3URL: http://cds.linear.com/docs/en/packaging/SOT_6_05-08-1636.pdf
footprint LT-S6_N (SOT23, 6-Leads, Body 2.9x1.63mm, Pitch 0.95mm, IPC Medium Density)
footprint LT-S6_L (SOT23, 6-Leads, Body 2.9x1.63mm, Pitch 0.95mm, IPC High Density)
footprint LT-S6_M (SOT23, 6-Leads, Body 2.9x1.63mm, Pitch 0.95mm, IPC Low Density)
pins: 1 OUTA (out), 2 GND (power), 3 +INA (in), 4 -INB (in), 5 VS (power), 6 OUTB (out)

## LT6700HS6-1#TRPBF
designator U?
Micropower, Low Voltage, Comparator with 400 mV Reference, 2 Channels, 1.4 to 18 V, -40 to +125 degC, 6-pin Plastic TSOT-23 (S6), Tape and Reel; Generic Part Number: LT6700-1; Manufacturer: Linear Technology; PartNumber: LT6700HS6-1#TRPBF; Channels (#): 2; Prop Delay (us): 18; Supply Current (uA) Guaranteed: 10; Supply Current (uA) Typical: 5.7; Vos (mV) Typical: 6; Vs Min (V): 1.4; DatasheetVersion: Rev G; PackageReference: S6; PackageDescription: 6-Pin Plastic TSOT-23, Body 2.9 x 1.63 mm, Pitch 0.95 mm; Supplier 1: Digi-Key; Supplier Part Number 1: LT6700HS6-1#TRPBF-ND; Features: Comparator, Window Comparator, Reference, Over-the-Top Inputs; RoHS: Y; Supply Voltage Range: 1.4 to 18 V; Vs Max (V): 18; Mounting Technology: Surface Mount; Code_JEDEC: MO-193; ComponentLink1Description: Manufacturer URL; ComponentLink1URL: http://www.linear.com/; ComponentLink2Description: Datasheet; ComponentLink2URL: http://cds.linear.com/docs/en/datasheet/6700123fg.pdf; ComponentLink3Description: Package Specification; ComponentLink3URL: http://cds.linear.com/docs/en/packaging/SOT_6_05-08-1636.pdf
footprint LT-S6_N (SOT23, 6-Leads, Body 2.9x1.63mm, Pitch 0.95mm, IPC Medium Density)
footprint LT-S6_L (SOT23, 6-Leads, Body 2.9x1.63mm, Pitch 0.95mm, IPC High Density)
footprint LT-S6_M (SOT23, 6-Leads, Body 2.9x1.63mm, Pitch 0.95mm, IPC Low Density)
pins: 1 OUTA (out), 2 GND (power), 3 +INA (in), 4 -INB (in), 5 VS (power), 6 OUTB (out)

## LT6700HS6-2
designator U?
Micropower, Low Voltage, Comparator with 400 mV Reference, 2 Channels, 1.4 to 18 V, -40 to +125 degC, 6-pin Plastic TSOT-23 (S6); Generic Part Number: LT6700-2; Manufacturer: Linear Technology; PartNumber: LT6700HS6-2; Channels (#): 2; Prop Delay (us): 18; Supply Current (uA) Guaranteed: 10; Supply Current (uA) Typical: 5.7; Vos (mV) Typical: 6; Vs Min (V): 1.4; DatasheetVersion: Rev G; PackageReference: S6; PackageDescription: 6-Pin Plastic TSOT-23, Body 2.9 x 1.63 mm, Pitch 0.95 mm; Features: Comparator, Reference, Over-the-Top Inputs; RoHS: N; Supply Voltage Range: 1.4 to 18 V; Vs Max (V): 18; Mounting Technology: Surface Mount; Code_JEDEC: MO-193; ComponentLink1Description: Manufacturer URL; ComponentLink1URL: http://www.linear.com/; ComponentLink2Description: Datasheet; ComponentLink2URL: http://cds.linear.com/docs/en/datasheet/6700123fg.pdf; ComponentLink3Description: Package Specification; ComponentLink3URL: http://cds.linear.com/docs/en/packaging/SOT_6_05-08-1636.pdf
footprint LT-S6_N (SOT23, 6-Leads, Body 2.9x1.63mm, Pitch 0.95mm, IPC Medium Density)
footprint LT-S6_L (SOT23, 6-Leads, Body 2.9x1.63mm, Pitch 0.95mm, IPC High Density)
footprint LT-S6_M (SOT23, 6-Leads, Body 2.9x1.63mm, Pitch 0.95mm, IPC Low Density)
pins: 1 OUTA (out), 2 GND (power), 3 -INA (in), 4 -INB (in), 5 VS (power), 6 OUTB (out)

## LT6700HS6-2#PBF
designator U?
Micropower, Low Voltage, Comparator with 400 mV Reference, 2 Channels, 1.4 to 18 V, -40 to +125 degC, 6-pin Plastic TSOT-23 (S6); Generic Part Number: LT6700-2; Manufacturer: Linear Technology; PartNumber: LT6700HS6-2#PBF; Channels (#): 2; Prop Delay (us): 18; Supply Current (uA) Guaranteed: 10; Supply Current (uA) Typical: 5.7; Vos (mV) Typical: 6; Vs Min (V): 1.4; DatasheetVersion: Rev G; PackageReference: S6; PackageDescription: 6-Pin Plastic TSOT-23, Body 2.9 x 1.63 mm, Pitch 0.95 mm; Supplier 1: Newark; Supplier Part Number 1: 78T4283; Features: Comparator, Reference, Over-the-Top Inputs; RoHS: Y; Supply Voltage Range: 1.4 to 18 V; Vs Max (V): 18; Mounting Technology: Surface Mount; Code_JEDEC: MO-193; ComponentLink1Description: Manufacturer URL; ComponentLink1URL: http://www.linear.com/; ComponentLink2Description: Datasheet; ComponentLink2URL: http://cds.linear.com/docs/en/datasheet/6700123fg.pdf; ComponentLink3Description: Package Specification; ComponentLink3URL: http://cds.linear.com/docs/en/packaging/SOT_6_05-08-1636.pdf
footprint LT-S6_N (SOT23, 6-Leads, Body 2.9x1.63mm, Pitch 0.95mm, IPC Medium Density)
footprint LT-S6_L (SOT23, 6-Leads, Body 2.9x1.63mm, Pitch 0.95mm, IPC High Density)
footprint LT-S6_M (SOT23, 6-Leads, Body 2.9x1.63mm, Pitch 0.95mm, IPC Low Density)
pins: 1 OUTA (out), 2 GND (power), 3 -INA (in), 4 -INB (in), 5 VS (power), 6 OUTB (out)